# Altium footprint library SOT.PcbLib: 9 footprints
Each footprint in its own frame and in the unit in brackets; x right, y up, seen from the top. Pads: shape width x height; smd on the part's side, far side on the other; paste and mask are expansions set on the pad; w line width, h text height; cw(c..) or ccw(c..) is an arc to the next point about the centre after c.
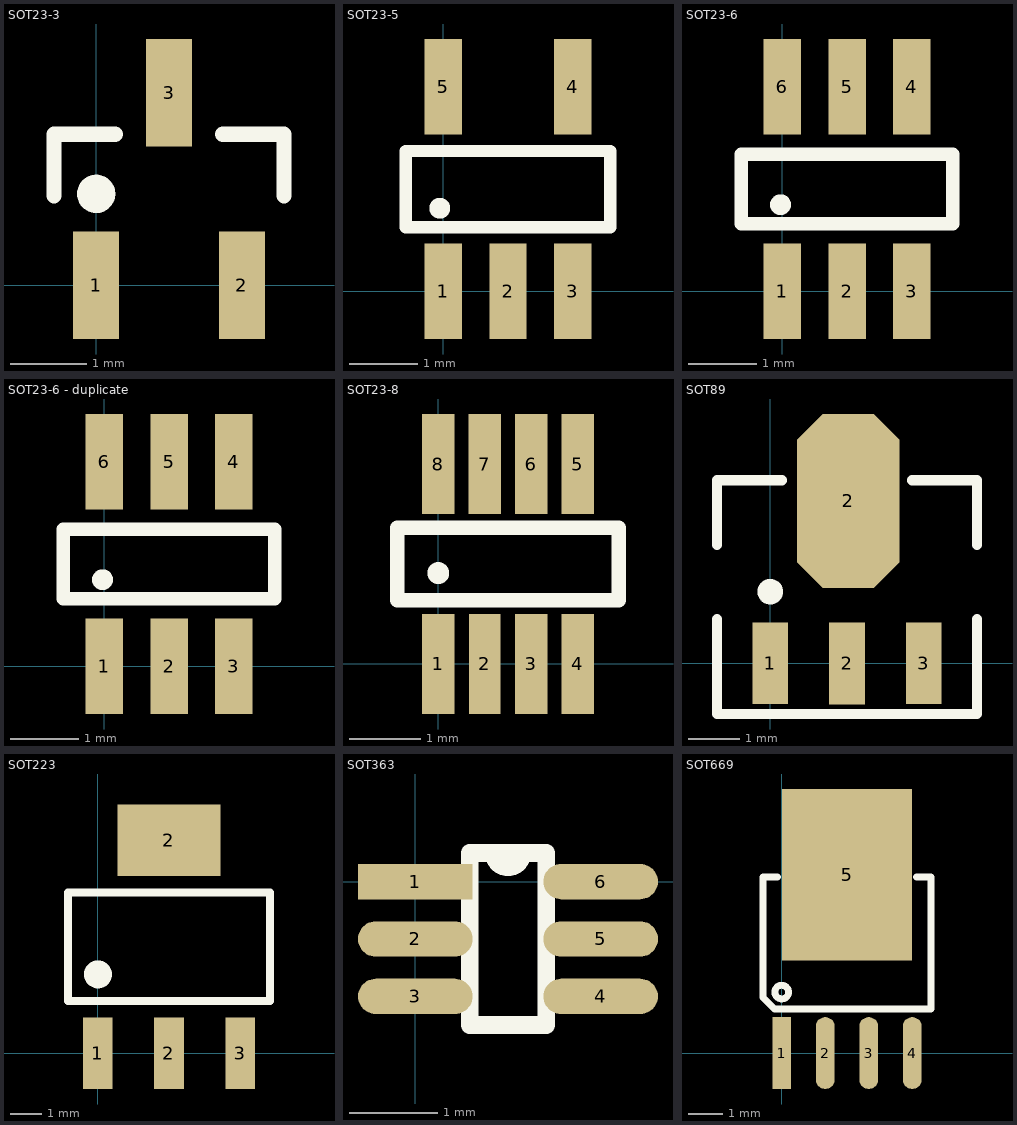
[diagram p0: the footprints below, top view; thin cyan lines are the x and y axes]

## SOT23-3 [mm]
pads (3):
  rect 0.6x1.4 smd: 1(0,0) 2(1.9,0) 3(0.95,2.514)
Top Overlay:
  circle w0.25: c0,1.194 r0.125
  lines w0.2: -0.55,1.17 -0.55,1.97 0.25,1.97 ; 1.65,1.97 2.45,1.97 2.45,1.17
3D body "SOT23-3.STEP": height 1.05, standoff 0, extent -0.587,-0.114 2.413,2.286

## SOT23-5 [mm]
pads (5):
  rect 0.55x1.4 smd: 1(0,0) 2(0.95,0) 3(1.9,0) 4(1.9,3) 5(0,3)
Top Overlay:
  circle w0.254: c-0.051,1.219 r0.025
  lines w0.178: -0.55,0.94 -0.55,2.057 2.45,2.057 2.45,0.94 -0.55,0.94
3D body "SOT23-5.STEP": height 1.15, standoff -0.03, extent -0.55,0.273 2.45,3.08

## SOT23-6 [mm]
pads (6):
  rect 0.55x1.4 smd: 1(0,0) 2(0.95,0) 3(1.9,0) 4(1.9,3) 5(0.95,3) 6(0,3)
Top Overlay:
  circle w0.254: c-0.025,1.27 r0.025
  lines w0.2: -0.6,0.992 -0.6,2.008 2.5,2.008 2.5,0.992 -0.6,0.992
3D body "SOT23-6.STEP": height 1.15, standoff -0.03, extent -0.55,0 2.45,2.807

## SOT23-6 - duplicate [mm]
pads (6):
  rect 0.55x1.4 smd: 1(0,0) 2(0.95,0) 3(1.9,0) 4(1.9,3) 5(0.95,3) 6(0,3)
Top Overlay:
  circle w0.254: c-0.025,1.27 r0.025
  lines w0.2: -0.6,0.992 -0.6,2.008 2.5,2.008 2.5,0.992 -0.6,0.992
3D body "SOT23-6.STEP": height 1.15, standoff -0.03, extent -0.55,0 2.45,2.807

## SOT23-8 [mm]
pads (8):
  rect 0.45x1.4 smd: 1(0,0) 3(1.3,0) 4(1.95,0) 5(1.95,2.794) 6(1.3,2.794) 7(0.65,2.794) 8(0,2.794)
  rect 0.44x1.4 smd: 2(0.65,0)
Top Overlay:
  circle w0.254: c0,1.27 r0.025
  lines w0.2: -0.575,0.889 -0.575,1.905 2.525,1.905 2.525,0.889 -0.575,0.889
3D body "SOT23-8.STEP": height 1.15, standoff 0, extent -0.536,0.095 2.464,2.902

## SOT89 [mm]
pads (4):
  rect 0.7x1.6 smd: 1(0,0) 2(1.5,-0.003) 3(3,0)
  oct 2x3.4 smd: 2(1.525,3.172)
Top Overlay:
  circle w0.25: c0,1.397 r0.125
  lines w0.2: -1.04,0.865 -1.04,-0.994 4.04,-0.994 4.04,0.865 ; -1.04,2.308 -1.04,3.578 0.23,3.578 ; 2.77,3.578 4.04,3.578 4.04,2.308
3D body "SOT89.STEP": height 1.6, standoff 0.04, extent -0.79,-0.372 3.81,3.928

## SOT223 [mm]
pads (4):
  rect 0.95x2.3 smd: 1(0,0) 2(2.3,0) 3(4.6,0)
  rect 3.3x2.3 smd: 2(2.3,6.858)
Top Overlay:
  circle w0.5: c0.014,2.54 r0.2
  lines w0.25: -0.95,1.679 5.55,1.679 5.55,5.179 -0.95,5.179 -0.95,1.679
Mechanical 13:
  lines w0.1: -0.95,1.679 -0.95,5.179 5.55,5.179 5.55,1.679 -0.95,1.679
3D body "SOT223.STEP": height 1.65, standoff -0.02, extent -0.95,-0.206 5.55,6.81

## SOT363 [mm]
pads (6):
  rect 1.3x0.4 smd: 1(0,0)
  oval 1.3x0.4 smd: 2(0,-0.65) 3(0,-1.3) 4(2.1,-1.3) 5(2.1,-0.65) 6(2.1,0)
Top Overlay:
  lines w0.2: 0.615,-1.625 1.485,-1.625 1.485,0.325 0.888,0.325 ccw(c1.05,0.325) 1.212,0.325 0.615,0.325 0.615,-1.625

## SOT669 [mm]
pads (5):
  rect 0.55x2.1 smd: 1(0,0)
  oval 0.55x2.1 smd: 2(1.27,0) 3(2.54,0) 4(3.81,0)
  rect 3.8x5 smd: 5(1.905,5.207)
Top Overlay:
  circle w0.2: c0,1.778 r0.2
  lines w0.203: -0.127,5.139 -0.545,5.139 -0.545,1.62 -0.209,1.284 4.355,1.284 4.355,5.139 3.937,5.139
3D body "SOT669.STEP": height 1.1, standoff -0.01, extent -0.545,0.241 4.355,6.363